# EAGLE library part SOCKET_QFP64 (library akita)
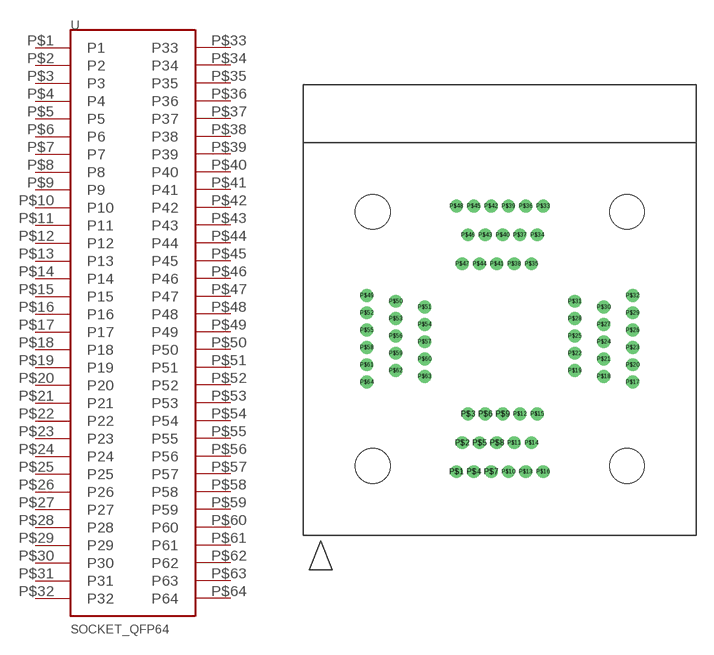
[diagram p136: symbol with the pads of SOCKET_QFP64_05MM; footprint SOCKET_QFP64_05MM]

Designator prefix U

## SOCKET_QFP64  [SOCKET_QFP64_05MM]
P$1  P1
P$2  P2
P$3  P3
P$4  P4
P$5  P5
P$6  P6
P$7  P7
P$8  P8
P$9  P9
P$10  P10
P$11  P11
P$12  P12
P$13  P13
P$14  P14
P$15  P15
P$16  P16
P$17  P17
P$18  P18
P$19  P19
P$20  P20
P$21  P21
P$22  P22
P$23  P23
P$24  P24
P$25  P25
P$26  P26
P$27  P27
P$28  P28
P$29  P29
P$30  P30
P$31  P31
P$32  P32
P$33  P33
P$34  P34
P$35  P35
P$36  P36
P$37  P37
P$38  P38
P$39  P39
P$40  P40
P$41  P41
P$42  P42
P$43  P43
P$44  P44
P$45  P45
P$46  P46
P$47  P47
P$48  P48
P$49  P49
P$50  P50
P$51  P51
P$52  P52
P$53  P53
P$54  P54
P$55  P55
P$56  P56
P$57  P57
P$58  P58
P$59  P59
P$60  P60
P$61  P61
P$62  P62
P$63  P63
P$64  P64

## Footprint SOCKET_QFP64_05MM (pad centres in mm)
drill 0.6: P$1 -3.75,-11.5; P$2 -3.25,-9; P$3 -2.75,-6.5; P$4 -2.25,-11.5; P$5 -1.75,-9; P$6 -1.25,-6.5; P$7 -0.75,-11.5; P$8 -0.25,-9; P$9 0.25,-6.5; P$10 0.75,-11.5; P$11 1.25,-9; P$12 1.75,-6.5; P$13 2.25,-11.5; P$14 2.75,-9; P$15 3.25,-6.5; P$16 3.75,-11.5; P$17 11.5,-3.75; P$18 9,-3.25; P$19 6.5,-2.75; P$20 11.5,-2.25; P$21 9,-1.75; P$22 6.5,-1.25; P$23 11.5,-0.75; P$24 9,-0.25; P$25 6.5,0.25; P$26 11.5,0.75; P$27 9,1.25; P$28 6.5,1.75; P$29 11.5,2.25; P$30 9,2.75; P$31 6.5,3.25; P$32 11.5,3.75; P$33 3.75,11.5; P$34 3.25,9; P$35 2.75,6.5; P$36 2.25,11.5; P$37 1.75,9; P$38 1.25,6.5; P$39 0.75,11.5; P$40 0.25,9; P$41 -0.25,6.5; P$42 -0.75,11.5; P$43 -1.25,9; P$44 -1.75,6.5; P$45 -2.25,11.5; P$46 -2.75,9; P$47 -3.25,6.5; P$48 -3.75,11.5; P$49 -11.5,3.75; P$50 -9,3.25; P$51 -6.5,2.75; P$52 -11.5,2.25; P$53 -9,1.75; P$54 -6.5,1.25; P$55 -11.5,0.75; P$56 -9,0.25; P$57 -6.5,-0.25; P$58 -11.5,-0.75; P$59 -9,-1.25; P$60 -6.5,-1.75; P$61 -11.5,-2.25; P$62 -9,-2.75; P$63 -6.5,-3.25; P$64 -11.5,-3.75
hole 3 at 11,11
hole 3 at -11,11
hole 3 at -11,-11
hole 3 at 11,-11